# Altium schematic symbol library PDU_YEDEK.SchLib: 83 symbols (part 10 of 10)
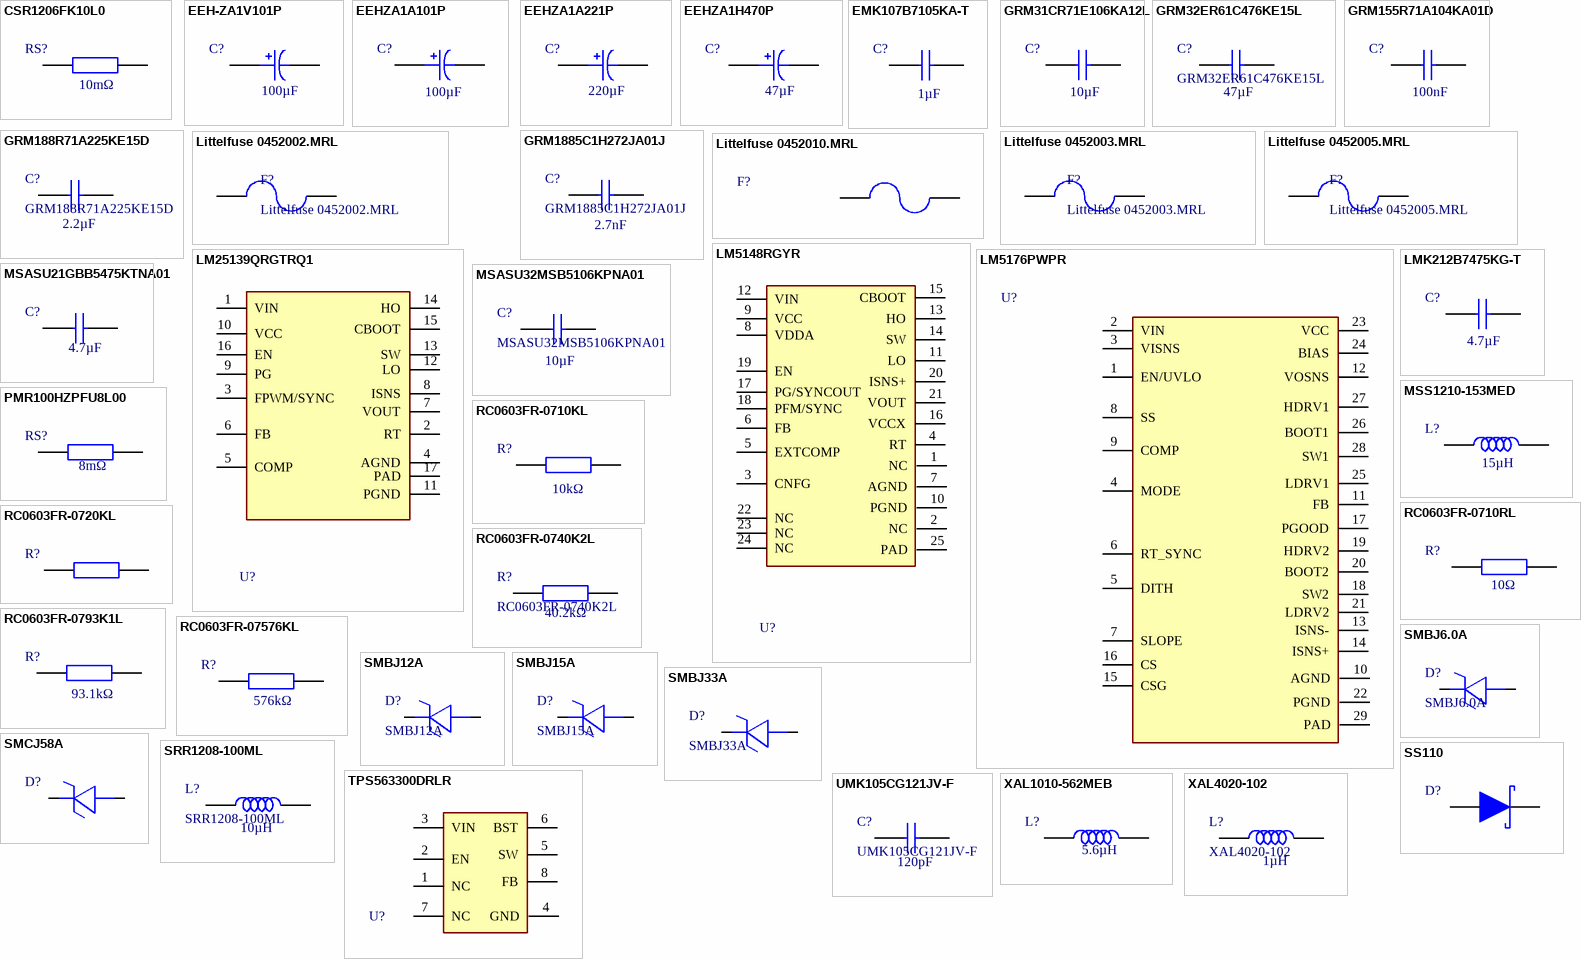
[diagram p11: symbols CSR1206FK10L0 to XAL4020‑102]

## UMK105CG121JV-F
designator C?  value 120pF
Multilayer Ceramic Capacitors 120pF 50V C0G 5% SMD 0402; Manufacturer: TAIYO YUDEN; Temperature Coefficient: 30ppm/°C; Supplier: Future Electronics; Supplier Part Number: UMK105CG121JV-F; Manufacturer Part Number: UMK105CG121JV-F; RoHS: Compliant; Category: Ceramic Capacitors; Stock: 10000; Pricing: 10000=0,0057, 30000=0,0055, 50000=0,0055, 150000=0,0053, 250000=0,0052 (USD); Case/Package: 0402; Case Code (Imperial): 0402; Case Code (Metric): 1005; Depth: 500µm; Dielectric: C0G; Dielectric Material: Ceramic; Halogen Free: Halogen Free; Height: 500µm; Lead Free: Lead Free; Length: 1mm; Lifecycle Status: Production; Max Length: 1.05mm; Max Operating Temperature: 125°C; Max Thickness: 550µm; Max Width: 550µm; Min Length: 950µm; Min Operating Temperature: -55°C; Min Thickness: 450µm; Min Width: 450µm; Mounting Technology: Surface Mount; Pins: 2; Number of Terminals: 2; Packaging: Cut Tape; Radiation Hardening: No; REACH SVHC: Yes; Termination: SMD/SMT; Thickness: 558.8µm; Tolerance: 5%; Voltage Rating: 50V; Voltage Rating (DC): 50V; Width: 500µm; ComponentLink1URL: https://datasheet.octopart.com:443/UMK105CG121JV-F-Taiyo-Yuden-datasheet-182134298.pdf?src-supplier=IHS; ComponentLink1Description: https://datasheet.octopart.com:443/UMK105CG121JV-F-Taiyo-Yuden-datasheet-182134298.pdf?src-supplier=IHS; ComponentLink2URL: https://datasheet.octopart.com:443/UMK105CG121JV-F-Taiyo-Yuden-datasheet-154810152.pdf?src-supplier=JRH+Electronics; ComponentLink2Description: https://datasheet.octopart.com:443/UMK105CG121JV-F-Taiyo-Yuden-datasheet-154810152.pdf?src-supplier=JRH+Electronics; ComponentLink3URL: https://datasheet.octopart.com:443/UMK105CG121JV-F-Taiyo-Yuden-datasheet-8858600.pdf?src-supplier=JRH+Electronics; ComponentLink3Description: https://datasheet.octopart.com:443/UMK105CG121JV-F-Taiyo-Yuden-datasheet-8858600.pdf?src-supplier=JRH+Electronics; ComponentLink4URL: https://datasheet.octopart.com:443/UMK105CG121JV-F-Taiyo-Yuden-datasheet-8857305.pdf?src-supplier=Newark; ComponentLink4Description: https://datasheet.octopart.com:443/UMK105CG121JV-F-Taiyo-Yuden-datasheet-8857305.pdf?src-supplier=Newark; ComponentLink5URL: https://datasheet.octopart.com:443/UMK105CG121JV-F-Taiyo-Yuden-datasheet-10851928.pdf?src-supplier=Newark; ComponentLink5Description: https://datasheet.octopart.com:443/UMK105CG121JV-F-Taiyo-Yuden-datasheet-10851928.pdf?src-supplier=Newark; ComponentLink6URL: https://datasheet.octopart.com:443/UMK105CG121JV-F-Taiyo-Yuden-datasheet-8434558.pdf?src-supplier=Newark; ComponentLink6Description: https://datasheet.octopart.com:443/UMK105CG121JV-F-Taiyo-Yuden-datasheet-8434558.pdf?src-supplier=Newark; ComponentLink7URL: https://datasheet.octopart.com:443/UMK105CG121JV-F-Taiyo-Yuden-datasheet-182874648.pdf?src-supplier=Newark; ComponentLink7Description: https://datasheet.octopart.com:443/UMK105CG121JV-F-Taiyo-Yuden-datasheet-182874648.pdf?src-supplier=Newark; ComponentLink8URL: https://datasheet.octopart.com:443/UMK105CG121JV-F-Taiyo-Yuden-datasheet-41194858.pdf?src-supplier=Newark; ComponentLink8Description: https://datasheet.octopart.com:443/UMK105CG121JV-F-Taiyo-Yuden-datasheet-41194858.pdf?src-supplier=Newark; ComponentLink9URL: https://datasheet.octopart.com:443/UMK105CG121JV-F-Taiyo-Yuden-datasheet-140473435.pdf?src-supplier=Master+Electronics; ComponentLink9Description: https://datasheet.octopart.com:443/UMK105CG121JV-F-Taiyo-Yuden-datasheet-140473435.pdf?src-supplier=Master+Electronics; ComponentLink10URL: https://datasheet.octopart.com:443/UMK105CG121JV-F-Taiyo-Yuden-datasheet-13695304.pdf?src-supplier=Farnell; ComponentLink10Description: https://datasheet.octopart.com:443/UMK105CG121JV-F-Taiyo-Yuden-datasheet-13695304.pdf?src-supplier=Farnell; ComponentLink11URL: https://datasheet.octopart.com:443/UMK105CG121JV-F-Taiyo-Yuden-datasheet-10742123.pdf?src-supplier=Farnell; ComponentLink11Description: https://datasheet.octopart.com:443/UMK105CG121JV-F-Taiyo-Yuden-datasheet-10742123.pdf?src-supplier=Farnell; ComponentLink12URL: https://datasheet.octopart.com:443/UMK105CG121JV-F-Taiyo-Yuden-datasheet-10545600.pdf?src-supplier=Farnell; ComponentLink12Description: https://datasheet.octopart.com:443/UMK105CG121JV-F-Taiyo-Yuden-datasheet-10545600.pdf?src-supplier=Farnell; ComponentLink13URL: https://datasheet.octopart.com:443/UMK105CG121JV-F-Taiyo-Yuden-datasheet-10622963.pdf?src-supplier=Farnell; ComponentLink13Description: https://datasheet.octopart.com:443/UMK105CG121JV-F-Taiyo-Yuden-datasheet-10622963.pdf?src-supplier=Farnell; ComponentLink14URL: https://datasheet.octopart.com:443/UMK105CG121JV-F-Taiyo-Yuden-datasheet-10618026.pdf?src-supplier=Farnell; ComponentLink14Description: https://datasheet.octopart.com:443/UMK105CG121JV-F-Taiyo-Yuden-datasheet-10618026.pdf?src-supplier=Farnell; ComponentLink15URL: https://datasheet.octopart.com:443/UMK105CG121JV-F-Taiyo-Yuden-datasheet-10549048.pdf?src-supplier=Farnell; ComponentLink15Description: https://datasheet.octopart.com:443/UMK105CG121JV-F-Taiyo-Yuden-datasheet-10549048.pdf?src-supplier=Farnell; ComponentLink16URL: https://datasheet.octopart.com:443/UMK105CG121JV-F-Taiyo-Yuden-datasheet-10671320.pdf?src-supplier=Farnell; ComponentLink16Description: https://datasheet.octopart.com:443/UMK105CG121JV-F-Taiyo-Yuden-datasheet-10671320.pdf?src-supplier=Farnell; ComponentLink17URL: https://datasheet.octopart.com:443/UMK105CG121JV-F-Taiyo-Yuden-datasheet-10620942.pdf?src-supplier=Farnell; ComponentLink17Description: https://datasheet.octopart.com:443/UMK105CG121JV-F-Taiyo-Yuden-datasheet-10620942.pdf?src-supplier=Farnell; ComponentLink18URL: https://datasheet.octopart.com:443/UMK105CG121JV-F-Taiyo-Yuden-datasheet-10408854.pdf?src-supplier=Farnell; ComponentLink18Description: https://datasheet.octopart.com:443/UMK105CG121JV-F-Taiyo-Yuden-datasheet-10408854.pdf?src-supplier=Farnell; ComponentLink19URL: https://datasheet.octopart.com:443/UMK105CG121JV-F-Taiyo-Yuden-datasheet-10283011.pdf?src-supplier=Farnell; ComponentLink19Description: https://datasheet.octopart.com:443/UMK105CG121JV-F-Taiyo-Yuden-datasheet-10283011.pdf?src-supplier=Farnell; ComponentLink20URL: https://datasheet.octopart.com:443/UMK105CG121JV-F-Taiyo-Yuden-datasheet-10031713.pdf?src-supplier=Farnell; ComponentLink20Description: https://datasheet.octopart.com:443/UMK105CG121JV-F-Taiyo-Yuden-datasheet-10031713.pdf?src-supplier=Farnell; ComponentLink21URL: https://datasheet.octopart.com:443/UMK105CG121JV-F-Taiyo-Yuden-datasheet-10854574.pdf?src-supplier=Farnell; ComponentLink21Description: https://datasheet.octopart.com:443/UMK105CG121JV-F-Taiyo-Yuden-datasheet-10854574.pdf?src-supplier=Farnell; ComponentLink22URL: https://datasheet.octopart.com:443/UMK105CG121JV-F-Taiyo-Yuden-datasheet-8820216.pdf?src-supplier=Farnell; ComponentLink22Description: https://datasheet.octopart.com:443/UMK105CG121JV-F-Taiyo-Yuden-datasheet-8820216.pdf?src-supplier=Farnell; ComponentLink23URL: https://datasheet.octopart.com:443/UMK105CG121JV-F-Taiyo-Yuden-datasheet-119523.pdf?src-supplier=Farnell; ComponentLink23Description: https://datasheet.octopart.com:443/UMK105CG121JV-F-Taiyo-Yuden-datasheet-119523.pdf?src-supplier=Farnell; ComponentLink24URL: https://datasheet.octopart.com:443/UMK105CG121JV-F-Taiyo-Yuden-datasheet-120265.pdf?src-supplier=Farnell; ComponentLink24Description: https://datasheet.octopart.com:443/UMK105CG121JV-F-Taiyo-Yuden-datasheet-120265.pdf?src-supplier=Farnell; ComponentLink25URL: https://datasheet.octopart.com:443/UMK105CG121JV-F-Taiyo-Yuden-datasheet-5326109.pdf?src-supplier=Farnell; ComponentLink25Description: https://datasheet.octopart.com:443/UMK105CG121JV-F-Taiyo-Yuden-datasheet-5326109.pdf?src-supplier=Farnell; ComponentLink26URL: https://datasheet.octopart.com:443/UMK105CG121JV-F-Taiyo-Yuden-datasheet-118905.pdf?src-supplier=Farnell; ComponentLink26Description: https://datasheet.octopart.com:443/UMK105CG121JV-F-Taiyo-Yuden-datasheet-118905.pdf?src-supplier=Farnell; ComponentLink27URL: https://datasheet.octopart.com:443/UMK105CG121JV-F-Taiyo-Yuden-datasheet-1645.pdf?src-supplier=Farnell; ComponentLink27Description: https://datasheet.octopart.com:443/UMK105CG121JV-F-Taiyo-Yuden-datasheet-1645.pdf?src-supplier=Farnell; ComponentLink28URL: https://datasheet.octopart.com:443/UMK105CG121JV-F-Taiyo-Yuden-datasheet-138738940.pdf?src-supplier=Taiyo+Yuden+SCT; ComponentLink28Description: https://datasheet.octopart.com:443/UMK105CG121JV-F-Taiyo-Yuden-datasheet-138738940.pdf?src-supplier=Taiyo+Yuden+SCT; ComponentLink29URL: https://datasheet.octopart.com:443/UMK105CG121JV-F-Taiyo-Yuden-datasheet-97186031.pdf?src-supplier=Future+Electronics; ComponentLink29Description: https://datasheet.octopart.com:443/UMK105CG121JV-F-Taiyo-Yuden-datasheet-97186031.pdf?src-supplier=Future+Electronics; ComponentLink30URL: https://datasheet.octopart.com/UMK105CG121JV-F-Taiyo-Yuden-datasheet-17274794.pdf; ComponentLink30Description: https://datasheet.octopart.com/UMK105CG121JV-F-Taiyo-Yuden-datasheet-17274794.pdf
pins: 1, 2

## XAL1010-562MEB
designator L?  value 5.6µH  (hidden comment: XAL1010-562MEB)
General Purpose Inductor, 5.6uH, 20%, 1 Element, Composite-Core, SMD, 4539; Manufacturer: Coilcraft; DC Resistance (DCR): 6.93mΩ; Max Current Rating: 21.2A; Number of Circuits: 1; Self Resonant Frequency: 16MHz; Shielding: Shielded; Test Frequency: 1MHz; Category: Fixed Inductors; Core Material: Composite; Country of Origin: Mainland China; Export Control Classification Number (ECCN) Code: EAR99; Harmonized Tariff Schedule (HTS) Code: 8504.50.80.00; Height: 10mm; Introduction Date: 2010-10-18; Lead Free: Contains Lead; Length: 11.3mm; Lifecycle Status: Obsolete; LTB Date: 2021-03-01; LTD Date: 2021-03-01; Manufacturer Part Number: XAL1010-562MEB; Max DC Current: 21.2A; Max Operating Temperature: 125°C; Min Operating Temperature: -40°C; Number of Terminals: 2; Ratings: AEC-Q200; REACH SVHC: Yes; RoHS: Compliant; Termination: SMD/SMT; Tolerance: 20%; Width: 10mm; DataSheet: https://eu.mouser.com/datasheet/3/995/1/xal1010.pdf; Supplier: Mouser
pins: 1, 2

## XAL4020‑102
designator L?  value 1µH
General Purpose Inductor, 1uH, 20%, 1 Element, Composite-Core, SMD, 1616; Manufacturer: Coilcraft; Manufacturer Part Number: XAL4020-102MEC; DC Resistance (DCR): 14.6mΩ; Max Current Rating: 9.6A; Number of Circuits: 1; Saturation Current: 8.7A; Self Resonant Frequency: 79MHz; Shielding: Shielded; Test Frequency: 1MHz; Supplier: Mouser; Supplier Part Number: 994-XAL4020-102MEC; RoHS: Compliant; Category: Fixed Inductors; Pricing: 1=2,19, 10=1,99, 50=1,92, 100=1,54, 1000=1,07, 10000=1,02 (USD); Ambient Temperature Range High: 125°C; Case/Package: 1616; Composition: Wirewound; Core Material: Composite; Country of Origin: Indonesia, Mainland China, Vietnam; Export Control Classification Number (ECCN) Code: EAR99; Height: 2.1mm; Harmonized Tariff Schedule (HTS) Code: 8504.50.80.00; Inductance Tolerance: 20%; Introduction Date: 2010-10-18; Lead Free: Contains Lead; Length: 4mm; Lifecycle Status: Production; Max DC Current: 9.6A; Max Operating Temperature: 125°C; Min Operating Temperature: -40°C; Number of Terminals: 2; Ratings: AEC-Q200; REACH SVHC: Yes; RMS Current (Irms): 9.6A; ESR: 14.6mΩ; Termination: SMD/SMT; Tolerance: 20%; Width: 4mm; ComponentLink1URL: https://datasheet.octopart.com:443/XAL4020-102MEC-Coilcraft-datasheet-180122003.pdf?src-supplier=IHS; ComponentLink1Description: https://datasheet.octopart.com:443/XAL4020-102MEC-Coilcraft-datasheet-180122003.pdf?src-supplier=IHS; ComponentLink2URL: https://datasheet.octopart.com:443/XAL4020-102MEC-Coilcraft-datasheet-138896143.pdf?src-supplier=Upverter; ComponentLink2Description: https://datasheet.octopart.com:443/XAL4020-102MEC-Coilcraft-datasheet-138896143.pdf?src-supplier=Upverter; ComponentLink3URL: https://datasheet.octopart.com:443/XAL4020-102MEC-Coilcraft-datasheet-10791550.pdf?src-supplier=Coilcraft+Direct; ComponentLink3Description: https://datasheet.octopart.com:443/XAL4020-102MEC-Coilcraft-datasheet-10791550.pdf?src-supplier=Coilcraft+Direct; ComponentLink4URL: https://datasheet.octopart.com:443/XAL4020-102MEC-Coilcraft-datasheet-14354380.pdf?src-supplier=Farnell; ComponentLink4Description: https://datasheet.octopart.com:443/XAL4020-102MEC-Coilcraft-datasheet-14354380.pdf?src-supplier=Farnell
pins: 1, 2

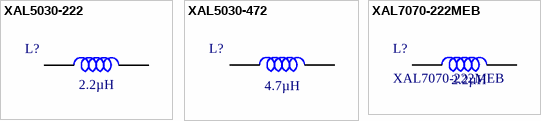
[diagram p2: symbols XAL5030‑222 to XAL7070-222MEB]

## XAL5030‑222
designator L?  value 2.2µH  (hidden comment: XAL5030‑222)
General Purpose Inductor, 2.2uH, 20%, 1 Element, Composite-Core, SMD, 2221; Manufacturer: Coilcraft; Manufacturer Part Number: XAL5030-222MEC; DC Resistance (DCR): 14.5mΩ; Max Current Rating: 9.7A; Max DC Current: 9.2A; Number of Circuits: 1; RMS Current (Irms): 7.2A; Self Resonant Frequency: 38MHz; Shielding: Shielded; Test Frequency: 1MHz; Supplier: Farnell; Supplier Part Number: XAL5030-222MEC; RoHS: Compliant; Category: Fixed Inductors; Stock: 117; Pricing: 1=3,34, 10=2,85, 50=2,63, 100=1,96, 200=1,71, 400=1,45 (EUR); Ambient Temperature Range High: 125°C; Case/Package: SMD/SMT; Core Material: Composite; Country of Origin: Mainland China, Vietnam; Export Control Classification Number (ECCN) Code: EAR99; Height: 3.1mm; Harmonized Tariff Schedule (HTS) Code: 8504.50.80.00; Inductance Tolerance: 20%; Introduction Date: 2011-03-29; Lead Free: Contains Lead; Length: 5.48mm; Lifecycle Status: Production; Max Operating Temperature: 125°C; Min Operating Temperature: -40°C; Mounting Technology: Surface Mount; Number of Terminals: 2; Packaging: Cut Tape; Ratings: AEC-Q200; REACH SVHC: Yes; Saturation Current: 9.2A; ESR: 14.5mΩ; Termination: SMD/SMT; Tolerance: 20%; Width: 5.28mm; ComponentLink1URL: https://datasheet.octopart.com:443/XAL5030-222MEC-Coilcraft-datasheet-180122023.pdf?src-supplier=IHS; ComponentLink1Description: https://datasheet.octopart.com:443/XAL5030-222MEC-Coilcraft-datasheet-180122023.pdf?src-supplier=IHS; ComponentLink2URL: https://datasheet.octopart.com:443/XAL5030-222MEC-Coilcraft-datasheet-10792017.pdf?src-supplier=Coilcraft+Direct; ComponentLink2Description: https://datasheet.octopart.com:443/XAL5030-222MEC-Coilcraft-datasheet-10792017.pdf?src-supplier=Coilcraft+Direct; ComponentLink3URL: https://datasheet.octopart.com:443/XAL5030-222MEC-Coilcraft-datasheet-181955333.pdf?src-supplier=Newark; ComponentLink3Description: https://datasheet.octopart.com:443/XAL5030-222MEC-Coilcraft-datasheet-181955333.pdf?src-supplier=Newark; ComponentLink4URL: https://datasheet.octopart.com:443/XAL5030-222MEC-Coilcraft-datasheet-14354381.pdf?src-supplier=Newark; ComponentLink4Description: https://datasheet.octopart.com:443/XAL5030-222MEC-Coilcraft-datasheet-14354381.pdf?src-supplier=Newark
pins: 1, 2

## XAL5030‑472
designator L?  value 4.7µH  (hidden comment: XAL5030‑472)
General Purpose Inductor, 4.7uH, 20%, 1 Element, Composite-Core, SMD, 2221; Manufacturer: Coilcraft; Manufacturer Part Number: XAL5030-472MEC; DC Resistance (DCR): 40mΩ; Max Current Rating: 5.9A; Number of Circuits: 1; Saturation Current: 6.7A; Self Resonant Frequency: 23MHz; Shielding: Shielded; Test Frequency: 1MHz; Supplier: Farnell; Supplier Part Number: XAL5030-472MEC; RoHS: Compliant; Category: Fixed Inductors; Pricing: 1=3,34, 10=2,85, 50=2,63, 100=1,96, 200=1,71, 400=1,45 (EUR); Case/Package: SMD/SMT; Core Material: Composite; Country of Origin: Mainland China, Vietnam; Export Control Classification Number (ECCN) Code: EAR99; Height: 3.1mm; Harmonized Tariff Schedule (HTS) Code: 8504.50.80.00; Inductance Tolerance: 20%; Introduction Date: 2011-03-29; Lead Free: Contains Lead; Length: 5.48mm; Lifecycle Status: Production; Max DC Current: 5.9A; Max Operating Temperature: 125°C; Min Operating Temperature: -40°C; Mounting Technology: Surface Mount; Number of Terminals: 2; Packaging: Cut Tape; Ratings: AEC-Q200; REACH SVHC: Yes; RMS Current (Irms): 5.9A; Termination: SMD/SMT; Tolerance: 20%; Width: 5.28mm; ComponentLink1URL: https://datasheet.octopart.com:443/XAL5030-472MEC-Coilcraft-datasheet-180122023.pdf?src-supplier=IHS; ComponentLink1Description: https://datasheet.octopart.com:443/XAL5030-472MEC-Coilcraft-datasheet-180122023.pdf?src-supplier=IHS; ComponentLink2URL: https://datasheet.octopart.com:443/XAL5030-472MEC-Coilcraft-datasheet-10792017.pdf?src-supplier=Coilcraft+Direct; ComponentLink2Description: https://datasheet.octopart.com:443/XAL5030-472MEC-Coilcraft-datasheet-10792017.pdf?src-supplier=Coilcraft+Direct; ComponentLink3URL: https://datasheet.octopart.com:443/XAL5030-472MEC-Coilcraft-datasheet-181955333.pdf?src-supplier=Newark; ComponentLink3Description: https://datasheet.octopart.com:443/XAL5030-472MEC-Coilcraft-datasheet-181955333.pdf?src-supplier=Newark; ComponentLink4URL: https://datasheet.octopart.com:443/XAL5030-472MEC-Coilcraft-datasheet-14354381.pdf?src-supplier=Newark; ComponentLink4Description: https://datasheet.octopart.com:443/XAL5030-472MEC-Coilcraft-datasheet-14354381.pdf?src-supplier=Newark
pins: 1, 2

## XAL7070-222MEB
designator L?  value 2.2µH
General Purpose Inductor, 2.2uH, 20%, 1 Element, Composite-Core, SMD, 3028; Manufacturer: Coilcraft; DC Resistance (DCR): 6.33mΩ; Max Current Rating: 17.8A; Number of Circuits: 1; Self Resonant Frequency: 35MHz; Shielding: Shielded; Test Frequency: 1MHz; Category: Fixed Inductors; Core Material: Composite; Country of Origin: Indonesia, Mainland China, Mexico; Export Control Classification Number (ECCN) Code: EAR99; Harmonized Tariff Schedule (HTS) Code: 8504.50.80.00; Height: 7mm; Introduction Date: 2011-03-10; Lead Free: Contains Lead; Length: 7.5mm; Lifecycle Status: Obsolete; LTB Date: 2021-03-01; LTD Date: 2021-03-01; Manufacturer Part Number: XAL7070-222MEB; Max DC Current: 17.8A; Max Operating Temperature: 125°C; Min Operating Temperature: -40°C; Number of Terminals: 2; Ratings: AEC-Q200; REACH SVHC: Yes; RoHS: Compliant; Termination: SMD/SMT; Tolerance: 20%; Width: 7.2mm; DataSheet: https://www.coilcraft.com/getmedia/1ba55433-bcc8-4838-9b21-382f497e12e0/xal7070.pdf
pins: 1, 2